# EAGLE library part ISO1050 (library bbauv)
The ISO1050 is a galvanically isolated CAN transceiver that meets the specifications of the ISO11898-2 standard. The device has the logic input and output buffers separated by a silicon oxide (SiO2) insulation barrier that provides galvanic isolation of up to 5000 VRMS for ISO1050DW and 2500 VRMS for ISO1050DUB. Used in conjunction with isolated power supplies, the device prevents noise currents on a data bus or other circuits from entering the local ground and interfering with or damaging sensitive circuitry. As a CAN transceiver, the device provides differential transmit capability to the bus and differential receive capability to a CAN controller at signaling rates up to 1 megabit per second (Mbps). Designed for operation in especially harsh environments, the device features cross-wire, overvoltage and loss of ground protection from –27 V to 40 V and over-temperature shut-down, as well as –12 V to 12 V common-mode range. The ISO1050 is characterized for operation over the ambient temperature range of –55°C to 105°C.
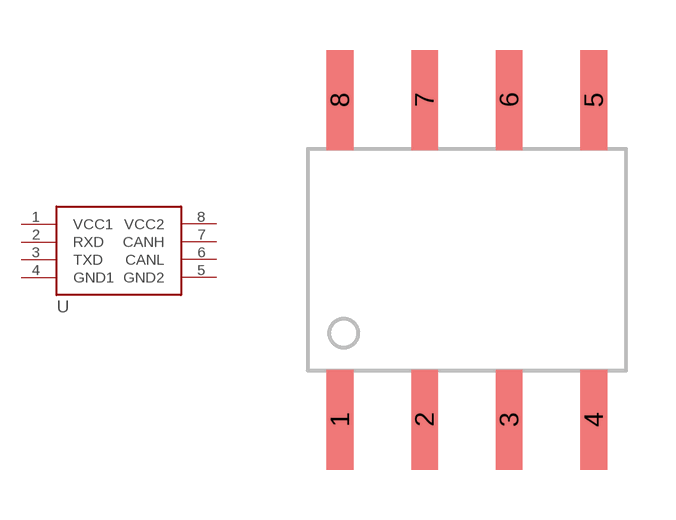
[diagram p11: symbol with the pads of DUB-8; footprint DUB-8]

Designator prefix -

## ISO1050  [DUB-8]
1  VCC1  pwr
2  RXD  out
3  TXD  in
4  GND1  pwr
5  GND2  pwr
6  CANL
7  CANH
8  VCC2  pwr

## Footprint DUB-8 (pad centres in mm)
smd 0.8 x 3: 1 -3.81,-4.8; 2 -1.27,-4.8; 3 1.27,-4.8; 4 3.81,-4.8; 5 3.81,4.8; 6 1.27,4.8; 7 -1.27,4.8; 8 -3.81,4.8